# Altium integrated library PMIC.IntLib: 63 symbols
Pins are listed as number, name and electrical type; pins without a type are passive.

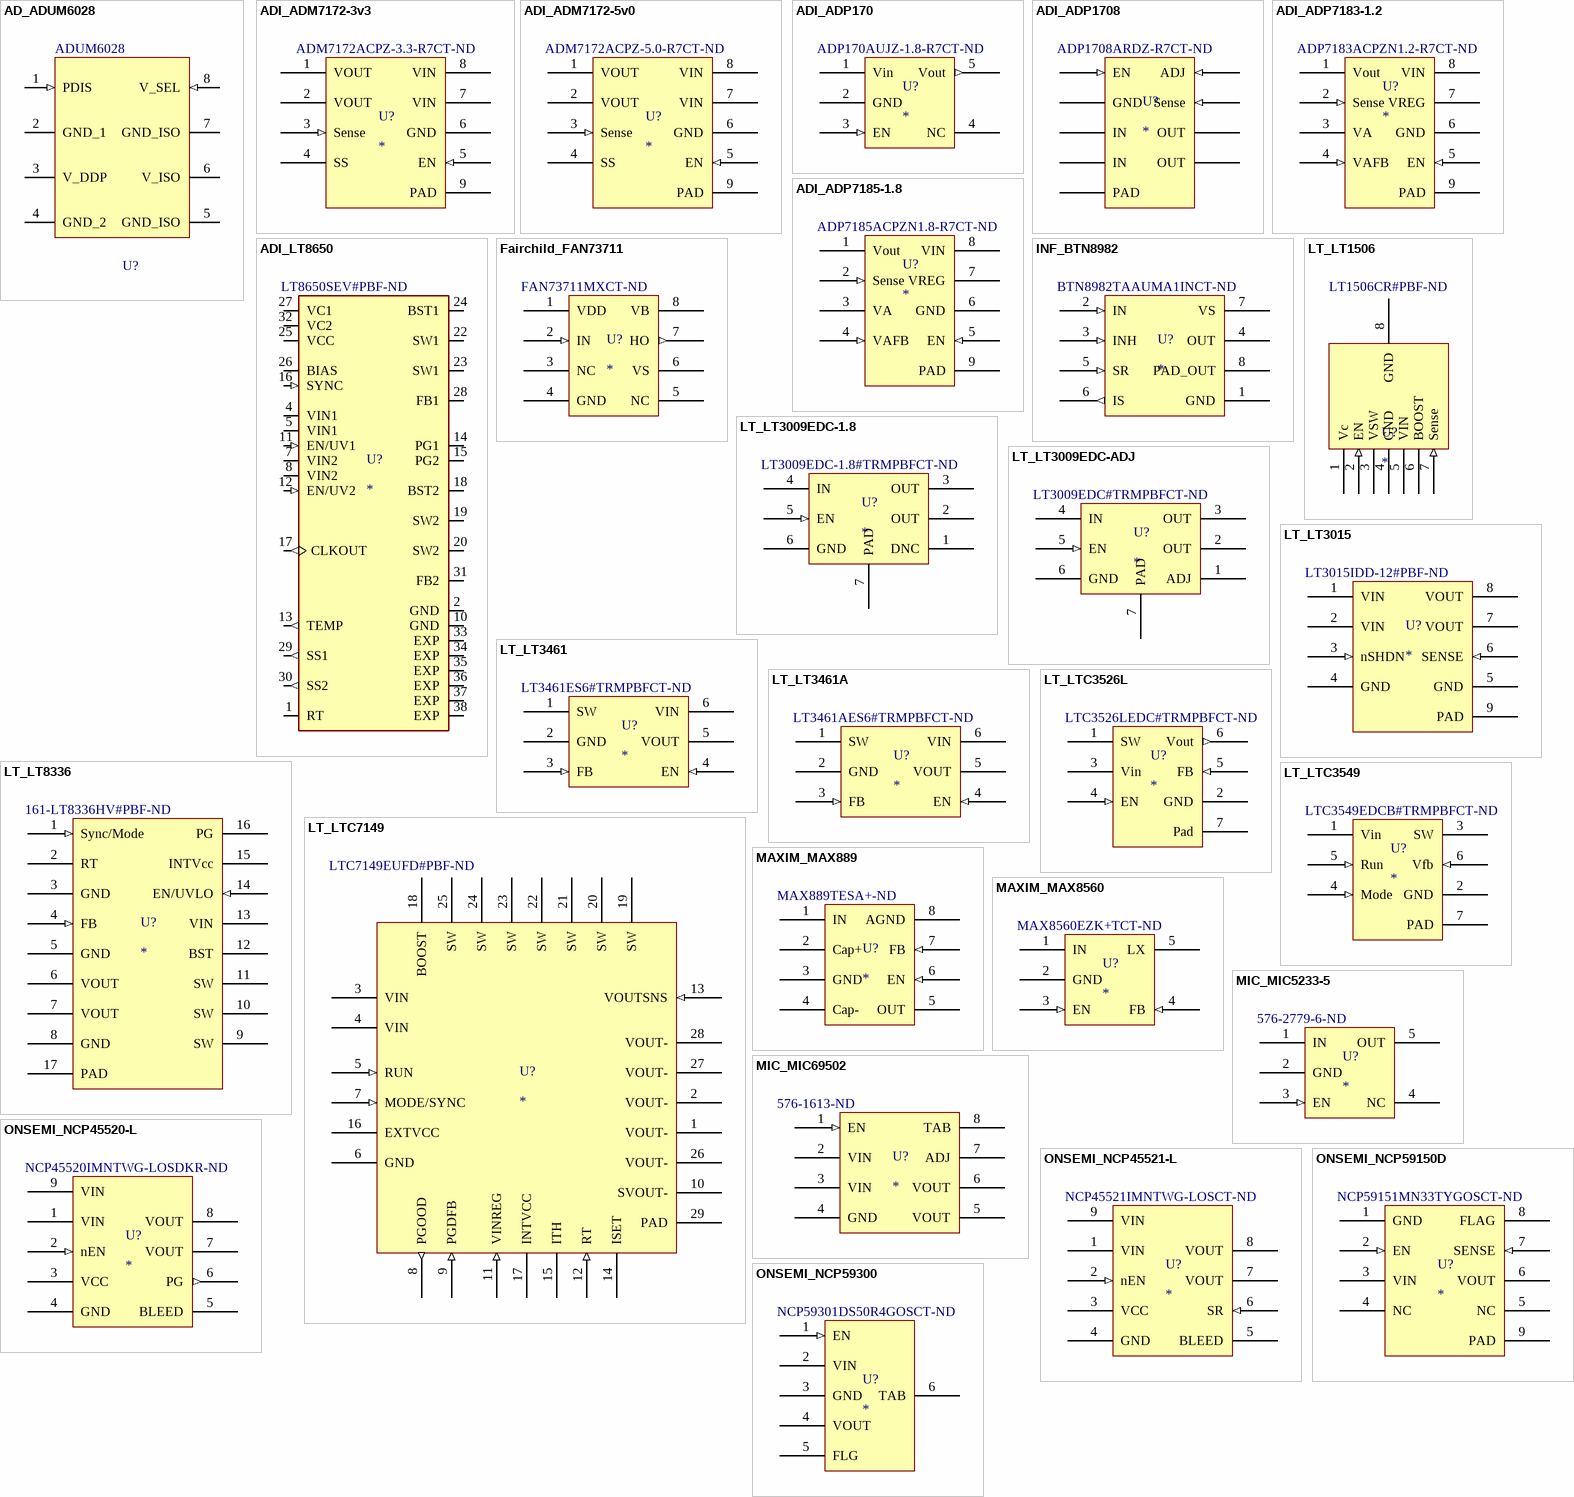
[diagram p0: symbols AD_ADUM6028 to ONSEMI_NCP59300]

## AD_ADUM6028
designator U?  Manufacturer Part Number: ADUM6028  (hidden comment: *)
ISO 3.3/5v 60mA; Manufacturer: Analog Devices; Number of Outputs: 1; Min Input Voltage: 4.5V; Max Input Voltage: 5.5V; Voltage - Output 1: 5V; Isolation Voltage: 5kV; Efficiency: 33%; Supplier 1: Digi-Key; Supplier Part Number 1: ADUM6028-5BRIZ-ND; RoHS: No; Category: Board Mount Modules; Stock 1: 124; Pricing 1: 1=9.23000, 10=8.34200, 25=7.95400, 100=6.59600, 250=6.01400, 500=5.62600 (USD); Mount: Surface Mount; Case/Package: SOIC; Number of Pins: 8; Min Operating Temperature: -40°C; Max Operating Temperature: 125°C; Features: UVLO,OTP; Max Output Current: 60mA; ComponentLink1URL: https://www.analog.com/media/en/technical-documentation/data-sheets/ADuM6020-6028.pdf?src-supplier=Digi-Key; ComponentLink1Description: https://www.analog.com/media/en/technical-documentation/data-sheets/ADuM6020-6028.pdf?src-supplier=Digi-Key
footprint ADI_ADUM6028_SOIC8 (SOIC, 8-Leads, Body 5.85x7.50mm, Pitch 1.27mm, IPC High Density)
pins: 1 PDIS (in), 2 GND_1, 3 V_DDP (power), 4 GND_2, 5 GND_ISO, 6 V_ISO (power), 7 GND_ISO, 8 V_SEL (in)

## ADI_ADM7172-3v3
designator U?  Supplier Part Number 1: ADM7172ACPZ-3.3-R7CT-ND
3.3V 2A LDO; Supplier 1: Digi-Key
footprint ADI_ADM7172_SON8 (SON, 8-Leads, Body 3.00x3.00mm, Pitch 0.50mm, Thermal Pad 2.44x1.49mm, IPC High Density)
pins: 1 VOUT (power), 2 VOUT (power), 3 Sense (in), 4 SS, 5 EN (in), 6 GND (power), 7 VIN (power), 8 VIN (power), 9 PAD (power)

## ADI_ADM7172-5v0
designator U?  Supplier Part Number 1: ADM7172ACPZ-5.0-R7CT-ND
5.0V 2A LDO; Supplier 1: Digi-Key
footprint ADI_ADM7172_SON8 (SON, 8-Leads, Body 3.00x3.00mm, Pitch 0.50mm, Thermal Pad 2.44x1.49mm, IPC High Density)
pins: 1 VOUT (power), 2 VOUT (power), 3 Sense (in), 4 SS, 5 EN (in), 6 GND (power), 7 VIN (power), 8 VIN (power), 9 PAD (power)

## ADI_ADP170
designator U?  Supplier Part Number 1: ADP170AUJZ-1.8-R7CT-ND
1.8V 300mA LDO; Supplier 1: Digi-Key
footprint ADI_ADP170_SOT23-5 (SOT23, 5-Leads, Body 2.90x2.70mm, Pitch 0.95mm, IPC High Density)
pins: 1 Vin (power), 2 GND (power), 3 EN (in), 4 NC, 5 Vout (out)

## ADI_ADP1708
designator U?  Supplier Part Number 1: ADP1708ARDZ-R7CT-ND
ADJ 1A LDO; Supplier 1: Digikey
footprint ADI_ADP1706_SOIC8 (SOIC, 8-Leads, Body 4.90x3.85mm, Pitch 1.27mm, Thermal Pad 3.10x2.41mm, IPC High Density)
pins: 0 PAD (power), 1 EN (in), 2 GND (power), 3 IN (power), 4 IN (power), 5 OUT (power), 6 OUT (power), 7 Sense (in), 8 ADJ (in)

## ADI_ADP7183-1.2
designator U?  Supplier Part Number 1: ADP7183ACPZN1.2-R7CT-ND
-1.2V Inverting 300mA LDO; Supplier 1: Digi-Key
footprint ADI_ADP7183_LFCSP-8 (SON, 8-Leads, Body 2.00x2.00mm, Pitch 0.50mm, Thermal Pad 1.50x0.89mm, IPC High Density)
pins: 1 Vout (power), 2 Sense (in), 3 VA, 4 VAFB (in), 5 EN (in), 6 GND (power), 7 VREG, 8 VIN (power), 9 PAD (power)

## ADI_ADP7185-1.8
designator U?  Supplier Part Number 1: ADP7185ACPZN1.8-R7CT-ND
-1.8V Inverting 500mA LDO; Supplier 1: Digi-Key
footprint ADI_ADP7183_LFCSP-8 (SON, 8-Leads, Body 2.00x2.00mm, Pitch 0.50mm, Thermal Pad 1.50x0.89mm, IPC High Density)
pins: 1 Vout (power), 2 Sense (in), 3 VA, 4 VAFB (in), 5 EN (in), 6 GND (power), 7 VREG, 8 VIN (power), 9 PAD (power)

## ADI_LT8650
designator U?  Supplier Part Number 1: LT8650SEV#PBF-ND
ADJ Dual 4A/4A Buck; MF: Analog Devices; MP: LT8650SEV#PBF; Package: LQFN -32 Analog Devices; Availability: Unavailable; Value: *; SnapEDA_Link: https://www.snapeda.com/parts/LT8650SEV%23PBF/Analog%20Devices/view-part/4330709/?ref=snap; Price: None; Supplier 1: Digi-Key
footprint AD_LT8650S
pins: 1 RT, 2 GND (power), 4 VIN1 (power), 5 VIN1 (power), 7 VIN2 (power), 8 VIN2 (power), 10 GND (power), 11 EN/UV1 (in), 12 EN/UV2 (in), 13 TEMP (out), 14 PG1 (oc), 15 PG2 (oc), 16 SYNC (in), 17 CLKOUT (out), 18 BST2, 19 SW2 (power), 20 SW2 (power), 22 SW1 (power), 23 SW1 (power), 24 BST1, 25 VCC (power), 26 BIAS (io), 27 VC1 (power), 28 FB1 (io), 29 SS1 (out), 30 SS2 (out), 31 FB2 (io), 32 VC2 (power), 33 EXP (power), 34 EXP (power), 35 EXP (power), 36 EXP (power), 37 EXP (power), 38 EXP (power)

## Fairchild_FAN73711
designator U?  Supplier Part Number 1: FAN73711MXCT-ND
High Side Gate Driver, 600V; Supplier 1: Digi-Key
footprint Fairchild_FAN73711_SOP8 (SOP, 8-Leads, Body 4.92x3.95mm, Pitch 1.27mm, IPC High Density)
pins: 1 VDD (power), 2 IN (in), 3 NC, 4 GND (power), 5 NC, 6 VS (power), 7 HO (out), 8 VB (power)

## INF_BTN8982
designator U?  Supplier Part Number 1: BTN8982TAAUMA1INCT-ND
50A Half Bridge; Supplier 1: Digi-Key
footprint INF_8982_TO263-7 (D2-PAK, 8-Pads, Body 7.82x8.46mm (max), IPC Low Density)
pins: 1 GND (power), 2 IN (in), 3 INH (in), 4 OUT (power), 5 SR (in), 6 IS (out), 7 VS (power), 8 PAD_OUT (power)

## LT_LT1506
designator U?  Supplier Part Number 1: LT1506CR#PBF-ND
ADJ 4.5A 500kHz Buck; Supplier 1: Digi-Key
footprint LT_LT1506F_DPAK
pins: 1 Vc (power), 2 EN (in), 3 VSW (power), 4 GND (power), 5 VIN (power), 6 BOOST (power), 7 Sense (in), 8 GND (power)

## LT_LT3009EDC-1.8
designator U?  Supplier Part Number 1: LT3009EDC-1.8#TRMPBFCT-ND
1.8V 20mA LDO; Supplier 1: Digi-Key
footprint LT_LT3009_DFN6 (QFN, 6-Leads, Body 2.00x2.00mm, Pitch 0.50mm, Thermal Pad 0.61x1.42mm, IPC Medium Density)
pins: 1 DNC, 2 OUT (power), 3 OUT (power), 4 IN (power), 5 EN (in), 6 GND (power), 7 PAD (power)

## LT_LT3009EDC-ADJ
designator U?  Supplier Part Number 1: LT3009EDC#TRMPBFCT-ND
ADJ 20mA LDO; Supplier 1: Digi-Key
footprint LT_LT3009_DFN6 (QFN, 6-Leads, Body 2.00x2.00mm, Pitch 0.50mm, Thermal Pad 0.61x1.42mm, IPC Medium Density)
pins: 1 ADJ, 2 OUT (power), 3 OUT (power), 4 IN (power), 5 EN (in), 6 GND (power), 7 PAD (power)

## LT_LT3015
designator U?  Supplier Part Number 1: LT3015IDD-12#PBF-ND
-12v 1.5A LDO; Supplier 1: Digi-Key
footprint LT_LT3015_SON-8 (SON, 8-Leads, Body 3.00x3.00mm, Pitch 0.50mm, Thermal Pad 2.40x1.49mm, IPC High Density)
pins: 1 VIN (power), 2 VIN (power), 3 nSHDN (in), 4 GND (power), 5 GND (power), 6 SENSE (in), 7 VOUT (power), 8 VOUT (power), 9 PAD (power)

## LT_LT3461
designator U?  Supplier Part Number 1: LT3461ES6#TRMPBFCT-ND
ADJ 250mA(Switch) 1.3MHz Boost; Supplier 1: Digi-Key
footprint LT_LT3461_SOT23-6 (SOT23, 6-Leads, Body 2.90x2.80mm, Pitch 0.95mm, IPC High Density)
pins: 1 SW (power), 2 GND (power), 3 FB (in), 4 EN (in), 5 VOUT (power), 6 VIN (power)

## LT_LT3461A
designator U?  Supplier Part Number 1: LT3461AES6#TRMPBFCT-ND
ADJ 250mA(Switch) 3MHz Boost; Supplier 1: Digi-Key
footprint LT_LT3461_SOT23-6 (SOT23, 6-Leads, Body 2.90x2.80mm, Pitch 0.95mm, IPC High Density)
pins: 1 SW (power), 2 GND (power), 3 FB (in), 4 EN (in), 5 VOUT (power), 6 VIN (power)

## LT_LT8336
designator U?  Supplier Part Number 1: 161-LT8336HV#PBF-ND
ADJ 2.5A 3MHz Boost; Supplier 1: Digi-Key
footprint LT_LT8336_QFN16 (QFN, 16-Leads, Body 3.00x3.00mm, Pitch 0.50mm, Thermal Pad 1.44x1.44mm, IPC High Density)
pins: 1 Sync/Mode (in), 2 RT, 3 GND (power), 4 FB (in), 5 GND (power), 6 VOUT (power), 7 VOUT (power), 8 GND (power), 9 SW (power), 10 SW (power), 11 SW (power), 12 BST, 13 VIN (power), 14 EN/UVLO (in), 15 INTVcc, 16 PG, 17 PAD (power)

## LT_LTC3526L
designator U?  Supplier Part Number 1: LTC3526LEDC#TRMPBFCT-ND
ADJ 550mA 1MHz Boost; Supplier 1: Digi-Key
footprint LT_LTC3526L_DFN6 (SON, 6-Leads, Body 2.00x2.00mm, Pitch 0.50mm, Thermal Pad 1.60x0.89mm, IPC High Density)
pins: 1 SW (power), 2 GND (power), 3 Vin (power), 4 EN (in), 5 FB (in), 6 Vout (out), 7 Pad (power)

## LT_LTC3549
designator U?  Supplier Part Number 1: LTC3549EDCB#TRMPBFCT-ND
ADJ 250mA 2.25MHz Buck; Supplier 1: Digi-Key
footprint LT_LTC3549_DFN (QFN, 6-Leads, Body 3.00x2.00mm, Pitch 0.50mm, Thermal Pad 1.65x1.35mm, IPC High Density)
pins: 1 Vin (power), 2 GND (power), 3 SW (power), 4 Mode (in), 5 Run (in), 6 Vfb (in), 7 PAD (power)

## LT_LTC7149
designator U?  Supplier Part Number 1: LTC7149EUFD#PBF-ND
ADJ 4A ADJ INVBuck; Supplier 1: Digi-Key
footprint LT_LTC7149_QFN-28 (QFN, 28-Leads, Body 4.00x5.00mm, Pitch 0.50mm, Thermal Pad 2.65x3.65mm, IPC High Density)
pins: 1 VOUT- (power), 2 VOUT- (power), 3 VIN (power), 4 VIN (power), 5 RUN (in), 6 GND (power), 7 MODE/SYNC (in), 8 PGOOD (out), 9 PGDFB (in), 10 SVOUT-, 11 VINREG (in), 12 RT (in), 13 VOUTSNS (in), 14 ISET, 15 ITH, 16 EXTVCC (power), 17 INTVCC (power), 18 BOOST, 19 SW (power), 20 SW (power), 21 SW (power), 22 SW (power), 23 SW (power), 24 SW (power), 25 SW (power), 26 VOUT- (power), 27 VOUT- (power), 28 VOUT- (power), 29 PAD (power)

## MAXIM_MAX889
designator U?  Supplier Part Number 1: MAX889TESA+-ND
Inverting Charge pump 200mA; Supplier 1: Digikey
footprint MAXIM_MAX889_SOIC-8 (SOP, 8-Leads, Body 4.90x3.90mm, Pitch 1.27mm, IPC High Density)
pins: 1 IN (power), 2 Cap+ (power), 3 GND (power), 4 Cap- (power), 5 OUT (power), 6 EN (in), 7 FB (in), 8 AGND (power)

## MAXIM_MAX8560
designator U?  Supplier Part Number 1: MAX8560EZK+TCT-ND
ADJ 500mA 4MHz Buck; Supplier 1: Digi-Key
footprint MAXIM_MAX8560_SOT23-5 (SOT23, 5-Leads, Body 2.90x2.70mm, Pitch 0.95mm, IPC High Density)
pins: 1 IN (power), 2 GND (power), 3 EN (in), 4 FB (in), 5 LX (power)

## MIC_MIC5233-5
designator U?  Supplier Part Number 1: 576-2779-6-ND
5V 100mA Wide Voltage LDO; Supplier 1: Digi-Key
footprint TI_TLV702_SOT23-5 (SOT23, 5-Leads, Body 2.90x2.70mm, Pitch 0.95mm, IPC High Density)
pins: 1 IN (power), 2 GND (power), 3 EN (in), 4 NC, 5 OUT (power)

## MIC_MIC69502
designator U?  Supplier Part Number 1: 576-1613-ND
ADJ 5A LDO; Supplier 1: Digi-Key
footprint MIC_mic69502 (D-PAK, 8-Pads, Body 7.17x8.12mm (max), IPC High Density)
pins: 1 EN (in), 2 VIN (power), 3 VIN (power), 4 GND (power), 5 VOUT (power), 6 VOUT (power), 7 ADJ, 8 TAB (power)

## ONSEMI_NCP45520-L
designator U?  Supplier Part Number 1: NCP45520IMNTWG-LOSDKR-ND
13.5V, 10.5A Load Switch; Supplier 1: Digi-Key
footprint ONSEMI_NCP45520 (SON, 8-Leads, Body 2.00x2.00mm, Pitch 0.50mm, Thermal Pad 1.60x0.82mm, IPC High Density)
pins: 1 VIN (power), 2 nEN (in), 3 VCC (power), 4 GND (power), 5 BLEED (power), 6 PG (out), 7 VOUT (power), 8 VOUT (power), 9 VIN (power)

## ONSEMI_NCP45521-L
designator U?  Supplier Part Number 1: NCP45521IMNTWG-LOSCT-ND
13.5V, 10.5A Load Switch; Supplier 1: Digi-Key
footprint ONSEMI_NCP45520 (SON, 8-Leads, Body 2.00x2.00mm, Pitch 0.50mm, Thermal Pad 1.60x0.82mm, IPC High Density)
pins: 1 VIN (power), 2 nEN (in), 3 VCC (power), 4 GND (power), 5 BLEED (power), 6 SR (in), 7 VOUT (power), 8 VOUT (power), 9 VIN (power)

## ONSEMI_NCP59150D
designator U?  Supplier Part Number 1: NCP59151MN33TYGOSCT-ND
3.3V 1.5A LDO; Supplier 1: Digi-Key
footprint ONSEMI_NCP59150D (SON, 8-Leads, Body 4.00x4.00mm, Pitch 0.80mm, Thermal Pad 2.06x2.24mm, IPC High Density)
pins: 1 GND (power), 2 EN (in), 3 VIN (power), 4 NC, 5 NC, 6 VOUT (power), 7 SENSE (in), 8 FLAG (oc), 9 PAD (power)

## ONSEMI_NCP59300
designator U?  Supplier Part Number 1: NCP59301DS50R4GOSCT-ND
5V 3A LDO; Supplier 1: Digi-Key
footprint ONSEMI_NPC59300
pins: 1 EN (in), 2 VIN (power), 3 GND (power), 4 VOUT (power), 5 FLG (oc), 6 TAB (power)

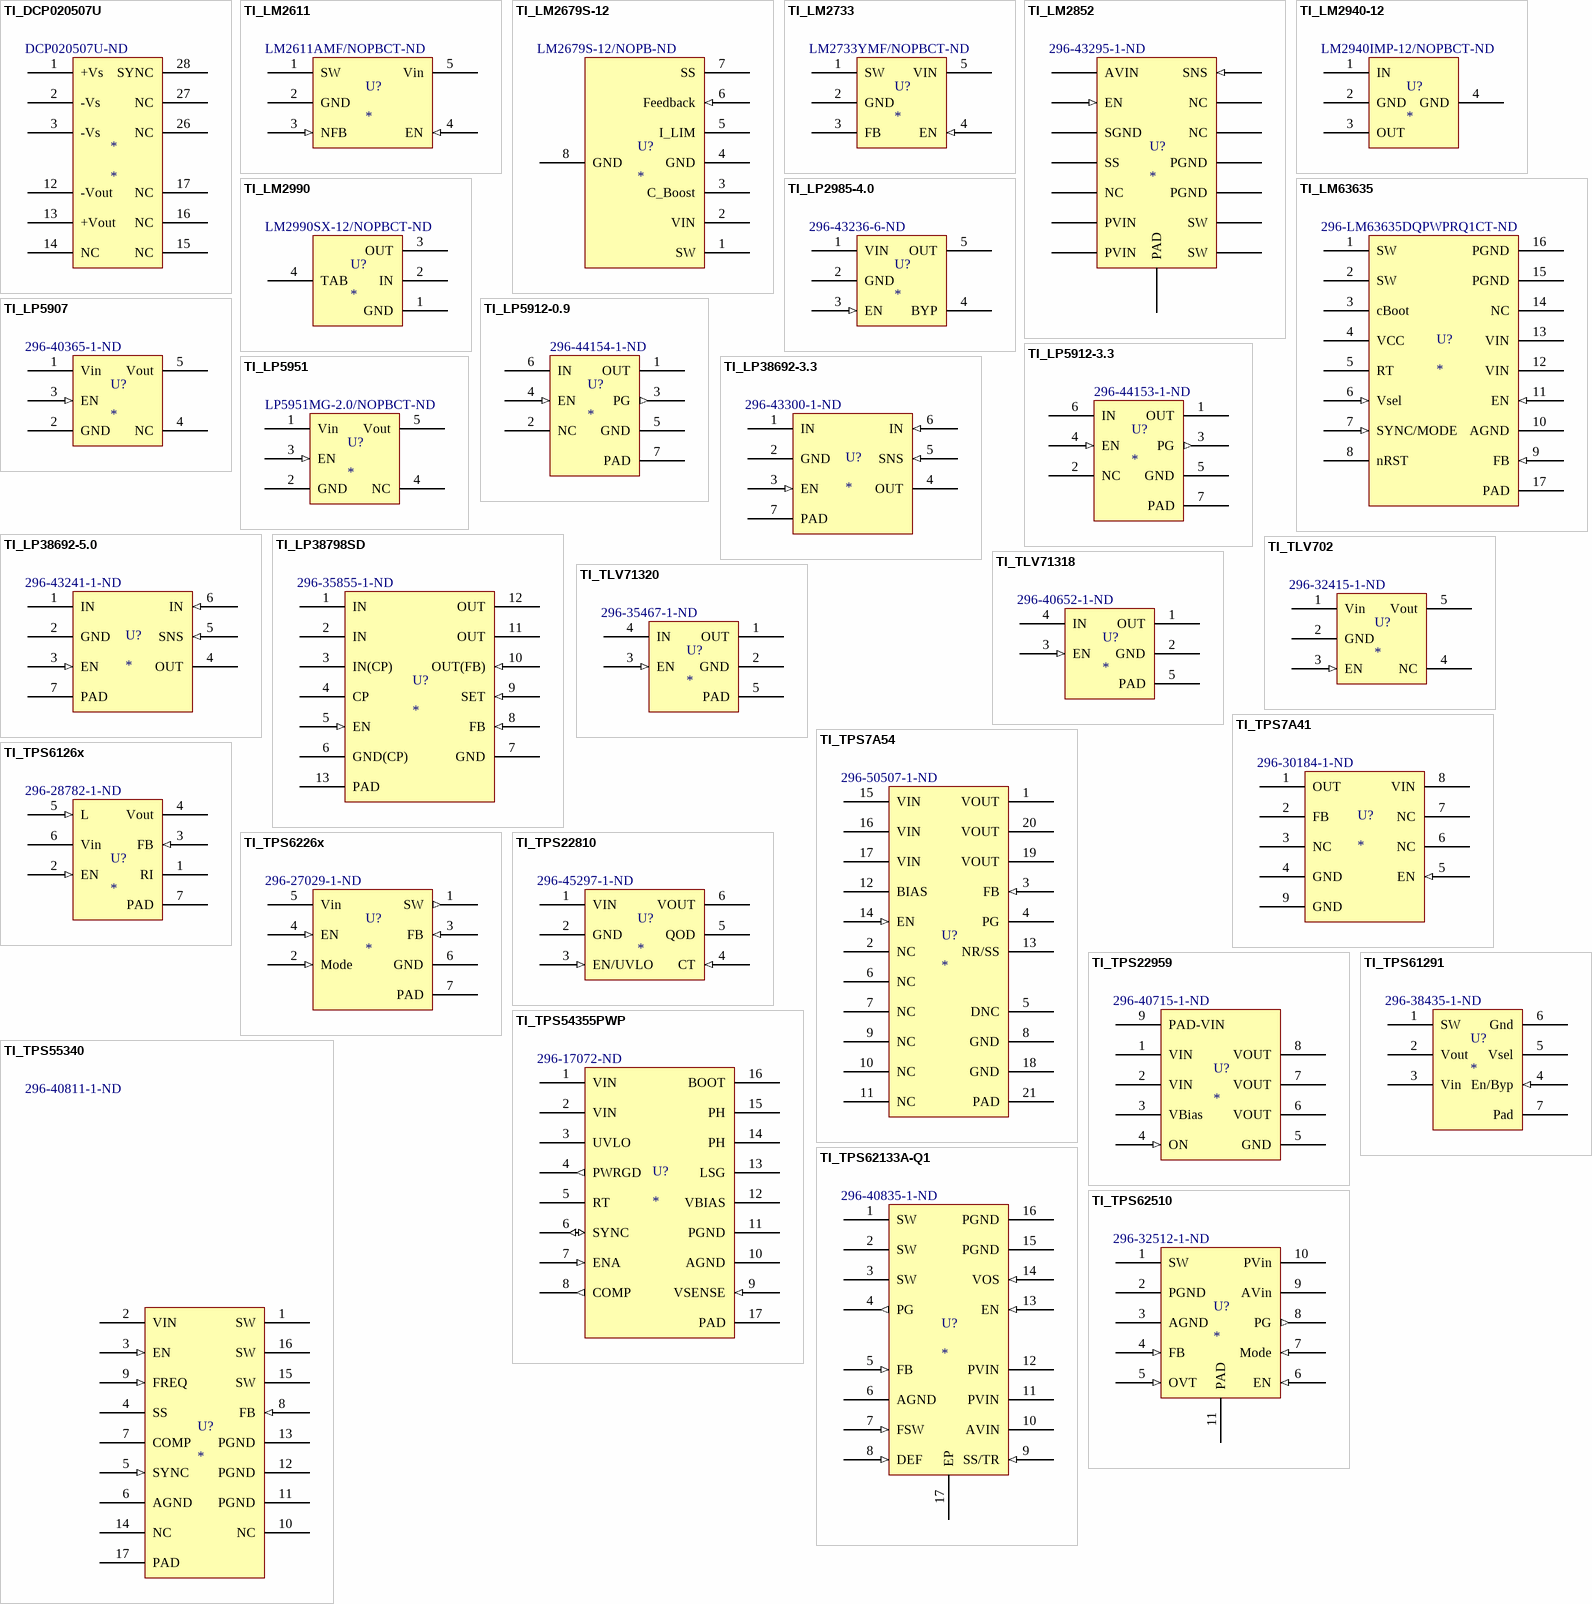
[diagram p1: symbols TI_DCP020507U to TI_TPS62510]

## TI_DCP020507U
designator *  Supplier Part Number 1: DCP020507U-ND
7V 286mA 800KHz isolated DCDC; Supplier 1: Digi-Key
footprint TI_DCP020507U_SOP12 (SOP, 28-Leads, Body 17.90x7.50mm, Pitch 1.27mm, IPC High Density)
pins: 1 +Vs (power), 2 -Vs (power), 3 -Vs (power), 12 -Vout (power), 13 +Vout (power), 14 NC, 15 NC, 16 NC, 17 NC, 26 NC, 27 NC, 28 SYNC

## TI_LM2611
designator U?  Supplier Part Number 1: LM2611AMF/NOPBCT-ND
ADJ 900mA 1.4MHz Cuk(INV); Supplier 1: Digi-Key
footprint TI_LM2611_SOT23-5 (SOT23, 5-Leads, Body 2.90x2.80mm, Pitch 0.95mm, IPC High Density)
pins: 1 SW (power), 2 GND (power), 3 NFB (in), 4 EN (in), 5 Vin (power)

## TI_LM2679S-12
designator U?  Supplier Part Number 1: LM2679S-12/NOPB-ND
12v 5A 260kHz Buck; Supplier 1: Digi-Key
footprint TI_LM2679 (D2-PAK, 8-Pads, Body 7.55x8.61mm (max), IPC High Density)
pins: 1 SW (power), 2 VIN (power), 3 C_Boost, 4 GND (power), 5 I_LIM, 6 Feedback (in), 7 SS, 8 GND (power)

## TI_LM2733
designator U?  Supplier Part Number 1: LM2733YMF/NOPBCT-ND
ADJ 1A 1.6MHz Boost; Supplier 1: Digi-Key
footprint TI_TLV702_SOT23-5 (SOT23, 5-Leads, Body 2.90x2.70mm, Pitch 0.95mm, IPC High Density)
pins: 1 SW (power), 2 GND (power), 3 FB, 4 EN (in), 5 VIN (power)

## TI_LM2852
designator U?  Supplier Part Number 1: 296-43295-1-ND
3.3V 2A 1.5MHz Buck; Supplier 1: Digi-Key
footprint TI_LM2852_TSOP-14 (TSOP, 14-Leads, Body 5.00x4.40mm, Pitch 0.65mm, Thermal Pad 3.10x3.00mm, IPC High Density)
pins: 1 AVIN (power), 2 EN (in), 3 SGND (power), 4 SS, 5 NC, 6 PVIN (power), 7 PVIN (power), 8 SW (power), 9 SW (power), 10 PGND (power), 11 PGND (power), 12 NC, 13 NC, 14 SNS (in), 15 PAD (power)

## TI_LM2940-12
designator U?  Supplier Part Number 1: LM2940IMP-12/NOPBCT-ND
12V 1A LDO; Supplier 1: Digi-Key
footprint TI_LM2940-SOT223-4 (SOT223, 4-Leads, Body 6.50x7.00mm (avg), Pitch 2.30mm, IPC High Density)
pins: 1 IN (power), 2 GND (power), 3 OUT (power), 4 GND (power)

## TI_LM2990
designator U?  Supplier Part Number 1: LM2990SX-12/NOPBCT-ND
-12V 1A LDO; Supplier 1: Digi-Key
footprint TI_LM2990_DPAK-3 (D2-PAK, 4-Pads, Body 7.55x8.56mm (max), IPC High Density)
pins: 1 GND (power), 2 IN (power), 3 OUT (power), 4 TAB (power)

## TI_LM63635
designator U?  Supplier Part Number 1: 296-LM63635DQPWPRQ1CT-ND
ADJ 3.25A 2.2MHz Buck; Supplier 1: Digi-Key
footprint TI_LM63635_TSOP16 (TSOP, 16-Leads, Body 5.00x4.40mm, Pitch 0.65mm, Thermal Pad 2.30x2.46mm, IPC High Density)
pins: 1 SW (power), 2 SW (power), 3 cBoot, 4 VCC (power), 5 RT (power), 6 Vsel (in), 7 SYNC/MODE (in), 8 nRST (oc), 9 FB (in), 10 AGND (power), 11 EN (in), 12 VIN (power), 13 VIN (power), 14 NC, 15 PGND (power), 16 PGND (power), 17 PAD (power)

## TI_LP2985-4.0
designator U?  Supplier Part Number 1: 296-43236-6-ND
4.0V 150mA LDO; Supplier 1: Digi-Key
footprint TI_TLV702_SOT23-5 (SOT23, 5-Leads, Body 2.90x2.70mm, Pitch 0.95mm, IPC High Density)
pins: 1 VIN (power), 2 GND (power), 3 EN (in), 4 BYP, 5 OUT (power)

## TI_LP5907
designator U?  Supplier Part Number 1: 296-40365-1-ND
3.3V 250mA LDO; Supplier 1: Digikey
footprint TI_TLV702_SOT23-5 (SOT23, 5-Leads, Body 2.90x2.70mm, Pitch 0.95mm, IPC High Density)
pins: 1 Vin (power), 2 GND (power), 3 EN (in), 4 NC, 5 Vout (power)

## TI_LP5912-0.9
designator U?  Supplier Part Number 1: 296-44154-1-ND
0.9V 500mA LDO; Supplier 1: Digi-Key
footprint TI_LP5912_PSON6 (SON, 6-Leads, Body 2.00x2.00mm, Pitch 0.65mm, Thermal Pad 1.60x0.89mm, IPC High Density)
pins: 1 OUT (power), 2 NC, 3 PG (out), 4 EN (in), 5 GND (power), 6 IN (power), 7 PAD (power)

## TI_LP5912-3.3
designator U?  Supplier Part Number 1: 296-44153-1-ND
3.3V 500mA LDO; Supplier 1: Digi-Key
footprint TI_LP5912_PSON6 (SON, 6-Leads, Body 2.00x2.00mm, Pitch 0.65mm, Thermal Pad 1.60x0.89mm, IPC High Density)
pins: 1 OUT (power), 2 NC, 3 PG (out), 4 EN (in), 5 GND (power), 6 IN (power), 7 PAD (power)

## TI_LP5951
designator U?  Supplier Part Number 1: LP5951MG-2.0/NOPBCT-ND
2.0V 150mA LDO; Supplier 1: Digi-Key
footprint TI_LP5951_SC70-5 (SOT23, 5-Leads, Body 2.00x2.10mm, Pitch 0.65mm, IPC High Density)
pins: 1 Vin (power), 2 GND (power), 3 EN (in), 4 NC, 5 Vout (power)

## TI_LP38692-3.3
designator U?  Supplier Part Number 1: 296-43300-1-ND
3.3V 1A LDO; Supplier 1: Digi-Key
footprint TI_LP38690_WSON-6 (SON, 6-Leads, Body 3.00x3.00mm, Pitch 0.95mm, Thermal Pad 2.10x1.60mm, IPC High Density)
pins: 1 IN (power), 2 GND (power), 3 EN (in), 4 OUT (power), 5 SNS (in), 6 IN (in), 7 PAD

## TI_LP38692-5.0
designator U?  Supplier Part Number 1: 296-43241-1-ND
5.0V 1A LDO; Supplier 1: Digi-Key
footprint TI_LP38690_WSON-6 (SON, 6-Leads, Body 3.00x3.00mm, Pitch 0.95mm, Thermal Pad 2.10x1.60mm, IPC High Density)
pins: 1 IN (power), 2 GND (power), 3 EN (in), 4 OUT (power), 5 SNS (in), 6 IN (in), 7 PAD

## TI_LP38798SD
designator U?  Supplier Part Number 1: 296-35855-1-ND
ADJ 800mA LN LDO; Supplier 1: Digi-Key
footprint TI_LP38798_SON12 (SON, 12-Leads, Body 4.00x4.00mm, Pitch 0.50mm, Thermal Pad 3.00x2.49mm, IPC High Density)
pins: 1 IN (power), 2 IN (power), 3 IN(CP) (power), 4 CP (power), 5 EN (in), 6 GND(CP) (power), 7 GND (power), 8 FB (in), 9 SET (in), 10 OUT(FB) (in), 11 OUT (power), 12 OUT (power), 13 PAD (power)

## TI_TLV702
designator U?  Supplier Part Number 1: 296-32415-1-ND
3.3V 300mA LDO; Supplier 1: Digikey
footprint TI_TLV702_SOT23-5 (SOT23, 5-Leads, Body 2.90x2.70mm, Pitch 0.95mm, IPC High Density)
pins: 1 Vin (power), 2 GND (power), 3 EN (in), 4 NC, 5 Vout (power)

## TI_TLV71318
designator U?  Supplier Part Number 1: 296-40652-1-ND
1.8V 150mA LDO CAPLESS; Supplier 1: Digi-Key
footprint TI_TLV713_DQN4 (SON, 4-Leads, Body 1.00x1.00mm, Pitch 0.65mm, Thermal Pad 0.50x0.00mm, IPC High Density)
pins: 1 OUT (power), 2 GND (power), 3 EN (in), 4 IN (power), 5 PAD (power)

## TI_TLV71320
designator U?  Supplier Part Number 1: 296-35467-1-ND
2.0V 150mA LDO CAPLESS; Supplier 1: Digi-Key
footprint TI_TLV713_DQN4 (SON, 4-Leads, Body 1.00x1.00mm, Pitch 0.65mm, Thermal Pad 0.50x0.00mm, IPC High Density)
pins: 1 OUT (power), 2 GND (power), 3 EN (in), 4 IN (power), 5 PAD (power)

## TI_TPS7A41
designator U?  Supplier Part Number 1: 296-30184-1-ND
ADJ 50mA 50Vin LDO; Supplier 1: Digi-Key
footprint TI_7A41 (TSOP, 8-Leads, Body 3.00x3.00mm, Pitch 0.65mm, Thermal Pad 1.98x1.88mm, IPC High Density)
pins: 1 OUT (power), 2 FB, 3 NC, 4 GND (power), 5 EN (in), 6 NC, 7 NC, 8 VIN (power), 9 GND (power)

## TI_TPS7A54
designator U?  Supplier Part Number 1: 296-50507-1-ND
ADJ 4A LN LDO; Supplier 1: Digi-Key
footprint TI_TPS7A54_QFN20 (QFN, 20-Leads, Body 3.50x3.50mm, Pitch 0.50mm, Thermal Pad 2.05x2.05mm, IPC High Density)
pins: 1 VOUT (power), 2 NC, 3 FB (in), 4 PG (oc), 5 DNC, 6 NC, 7 NC, 8 GND (power), 9 NC, 10 NC, 11 NC, 12 BIAS (power), 13 NR/SS, 14 EN (in), 15 VIN (power), 16 VIN (power), 17 VIN (power), 18 GND (power), 19 VOUT (power), 20 VOUT (power), 21 PAD (power)

## TI_TPS6126x
designator U?  Supplier Part Number 1: 296-28782-1-ND
ADJ 100mA 2.5MHz Boost; Supplier 1: Digi-Key
footprint TI_TPS6126x_PSON6 (SON, 6-Leads, Body 2.00x2.00mm, Pitch 0.65mm, Thermal Pad 1.60x0.89mm, IPC High Density)
pins: 1 RI "2-20kR", 2 EN (in) "2-20kR", 3 FB (in) "2-20kR", 4 Vout (power) "2-20kR", 5 L (in) "2-20kR", 6 Vin (power) "2-20kR", 7 PAD (power) "2-20kR"

## TI_TPS6226x
designator U?  Supplier Part Number 1: 296-27029-1-ND
ADJ 600mA 2.25MHz Buck; Supplier 1: Digi-Key
footprint TI_TPS6226x_PSON6 (SON, 6-Leads, Body 2.00x2.00mm, Pitch 0.65mm, Thermal Pad 1.60x0.89mm, IPC Medium Density)
pins: 1 SW (out), 2 Mode (in), 3 FB (in), 4 EN (in), 5 Vin (power), 6 GND (power), 7 PAD (power)

## TI_TPS22810
designator U?  Supplier Part Number 1: 296-45297-1-ND
18V 2A Load Switch; Supplier 1: Digi-Key
footprint TI_TPS22810_SOT-6 (SOT23, 6-Leads, Body 2.90x2.80mm, Pitch 0.95mm, IPC High Density)
pins: 1 VIN (power), 2 GND (power), 3 EN/UVLO (in), 4 CT (in), 5 QOD, 6 VOUT (power)

## TI_TPS22959
designator U?  Supplier Part Number 1: 296-40715-1-ND
5V, 15A Load Switch; Supplier 1: Digi-Key
footprint TI_TPS22959_SON8 (PSON, 8-Leads, Body 3.00x3.00mm, Pitch 0.65mm, Thermal Pad 2.40x1.60mm, IPC High Density)
pins: 1 VIN (power), 2 VIN (power), 3 VBias (power), 4 ON (in), 5 GND (power), 6 VOUT (power), 7 VOUT (power), 8 VOUT (power), 9 PAD-VIN (power)

## TI_TPS54355PWP
designator U?  Supplier Part Number 1: 296-17072-ND
2.5V 3A Buck; Supplier 1: Digi-Key
footprint TI_TPS54355PWP_TSOP-16 (TSOP, 16-Leads, Body 5.00x4.40mm, Pitch 0.65mm, Thermal Pad 2.31x2.46mm, IPC High Density)
pins: 1 VIN (power), 2 VIN (power), 3 UVLO, 4 PWRGD (out), 5 RT, 6 SYNC (io), 7 ENA (in), 8 COMP (out), 9 VSENSE (in), 10 AGND (power), 11 PGND (power), 12 VBIAS, 13 LSG, 14 PH, 15 PH, 16 BOOT, 17 PAD (power)

## TI_TPS55340
designator U?  Supplier Part Number 1: 296-40811-1-ND
ADJ 5A ADJ BOOST; Supplier 1: Digi-Key
footprint TI_TPS55340_QFN-16 (QFN, 16-Leads, Body 3.00x3.00mm, Pitch 0.50mm, Thermal Pad 1.70x1.70mm, IPC High Density)
pins: 1 SW (power), 2 VIN (power), 3 EN (in), 4 SS, 5 SYNC (in), 6 AGND (power), 7 COMP, 8 FB (in), 9 FREQ (in), 10 NC, 11 PGND (power), 12 PGND (power), 13 PGND (power), 14 NC, 15 SW (power), 16 SW (power), 17 PAD (power)

## TI_TPS61291
designator U?  Supplier Part Number 1: 296-38435-1-ND
PROG 700mA Boost w/ Bypass; Supplier 1: Digi-Key
footprint TI_TPS61291_PSON6 (SON, 6-Leads, Body 2.00x2.00mm, Pitch 0.65mm, Thermal Pad 1.60x0.89mm, IPC High Density)
pins: 1 SW (power), 2 Vout (power), 3 Vin (power), 4 En/Byp (in), 5 Vsel, 6 Gnd (power), 7 Pad (power)

## TI_TPS62133A-Q1
designator U?  Supplier Part Number 1: 296-40835-1-ND
5V 3A 2.5MHz Buck; Supplier 1: Digi-Key
footprint TI_TPS6213xA_QFN16 (QFN, 16-Leads, Body 3.00x3.00mm, Pitch 0.50mm, Thermal Pad 1.68x1.68mm, IPC High Density)
pins: 1 SW (power), 2 SW (power), 3 SW (power), 4 PG (out), 5 FB (in), 6 AGND (power), 7 FSW (in), 8 DEF (in), 9 SS/TR (in), 10 AVIN (power), 11 PVIN (power), 12 PVIN (power), 13 EN (in), 14 VOS (in), 15 PGND (power), 16 PGND (power), 17 EP (power)

## TI_TPS62510
designator U?  Supplier Part Number 1: 296-32512-1-ND
ADJ 1.5A 1.5MHz Buck; Supplier 1: Digi-Key
footprint TI_TPS62510_SON-10 (SON, 10-Leads, Body 3.00x3.00mm, Pitch 0.50mm, Thermal Pad 2.40x1.49mm, IPC High Density)
pins: 1 SW (power), 2 PGND (power), 3 AGND (power), 4 FB (in), 5 OVT (in), 6 EN (in), 7 Mode (in), 8 PG (out), 9 AVin (power), 10 PVin (power), 11 PAD (power)

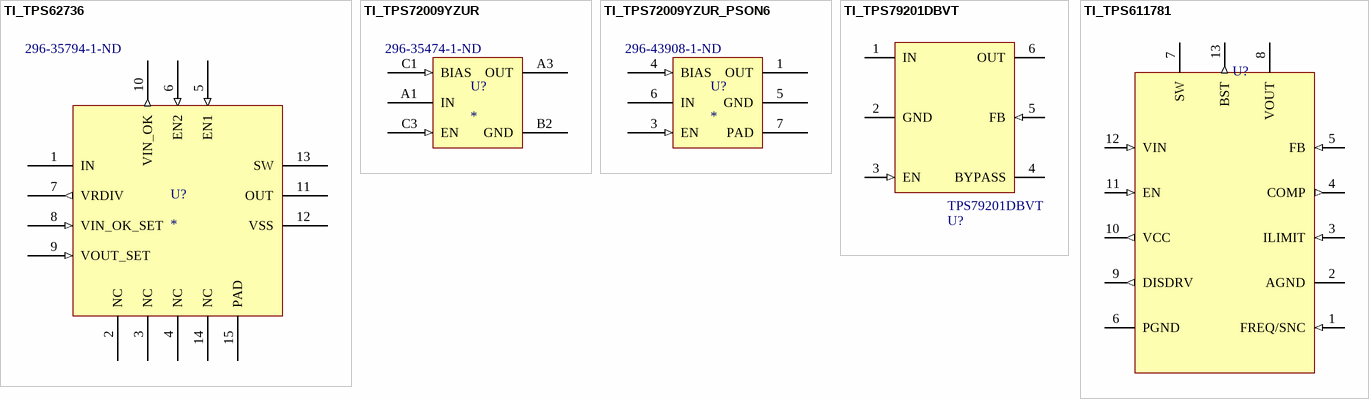
[diagram p2: symbols TI_TPS62736 to TI_TPS611781]

## TI_TPS62736
designator U?  Supplier Part Number 1: 296-35794-1-ND
ADJ 50mA ULP Buck; Supplier 1: Digi-Key
footprint TI_TPS62736_PQFN14 (QFN, 14-Leads, Body 3.50x3.50mm, Pitch 1.50mm/0.50mm, Thermal Pad 2.05x2.05mm, IPC Medium Density)
pins: 1 IN (power), 2 NC, 3 NC, 4 NC, 5 EN1 (in), 6 EN2 (in), 7 VRDIV (out), 8 VIN_OK_SET (in), 9 VOUT_SET (in), 10 VIN_OK (out), 11 OUT (power), 12 VSS (power), 13 SW (power), 14 NC (power), 15 PAD (power)

## TI_TPS72009YZUR
designator U?  Supplier Part Number 1: 296-35474-1-ND
0.9V 350mA LDO; Supplier 1: Digi-Key
footprint TI_TPS720_DSBGA5 (BGA, 5-Leads, Body 0.96x1.33mmx0.63mm, Pitch 0.50mm)
pins: A1 IN (power), A3 OUT (power), B2 GND (power), C1 BIAS (in), C3 EN (in)

## TI_TPS72009YZUR_PSON6
designator U?  Supplier Part Number 1: 296-43908-1-ND
0.9V 350mA LDO; Supplier 1: Digi-Key
footprint TI_TPS720_PSON6 (SON, 6-Leads, Body 2.00x2.00mm, Pitch 0.65mm, Thermal Pad 1.60x0.89mm, IPC High Density)
pins: 1 OUT (power), 3 EN (in), 4 BIAS (in), 5 GND (power), 6 IN (power), 7 PAD (power)

## TI_TPS79201DBVT
designator U?  Manufacturer Part Number: TPS79201DBVT  (hidden comment: *)
ADJ 100mA LDO; Manufacturer: Texas Instruments; Dropout Voltage: 55mV; Number of Outputs: 1; Max Power Dissipation: 561mW; Output Voltage: 5.5V; Min Input Voltage: 2.7V; Input Bias Current: 170uA; Reference Voltage: 1.2246V; Min Current Limit: 285mA; Quiescent Current: 200uA; Polarity: Positive; Accuracy: 2%; Min Output Voltage: 1.2V; Output Type: Adjustable; Supplier 1: Digi-Key; RoHS: Yes; Category: Voltage Regulators - Linear; Stock 1: 936; Pricing 1: 1=1.52000, 10=1.35700, 25=1.28800, 100=0.98900 (USD); Case/Package: SOT-23; Number of Pins: 6; Min Operating Temperature: -40°C; Max Operating Temperature: 125°C; Package Quantity: 1; Output Current: 100mA; Packaging: Tape and Reel; Max Output Current: 100mA; Max Input Voltage: 5.5V; Number of Regulators: 1; Power Dissipation: 561mW; Output Voltage Accuracy: 2%; Max Output Voltage: 5.5V; Power Rating: 561mW; Length: 2.9mm; Height: 1.15mm; Width: 1.6mm; Radiation Hardening: No; Lead Free: Lead Free; ComponentLink1URL: https://datasheet.ciiva.com/14666/0900766b80293ed6-14666488.pdf?src-supplier=RSComponents; ComponentLink1Description: https://datasheet.ciiva.com/14666/0900766b80293ed6-14666488.pdf?src-supplier=RSComponents; Supplier Part Number 1: 296-27097-1-ND
footprint TI_TPS79201DBVT (SOT23, 6-Leads, Body 2.90x2.80mm, Pitch 0.95mm, IPC High Density)
pins: 1 IN (power), 2 GND (power), 3 EN (in), 4 BYPASS, 5 FB (in), 6 OUT (power)

## TI_TPS611781
designator U?  Supplier Part Number 1: 296-46568-1-ND  (hidden comment: *)
ADJ 10A 2.2MHz Boost; Manufacturer: Texas Instruments; Manufacturer Part Number: TPS611781RNWT; Output Type: Adjustable; Output Configuration: Positive; Number of Outputs: 1; Min Input Voltage: 2.7V; Max Input Voltage: 20V; Min Output Voltage: 4.5V; Synchronous Rectifier: Yes; Supplier 1: Digi-Key; RoHS: No; Category: Voltage Regulators - Switching; Stock 1: 292; Pricing 1: 1=4.83000, 10=4.33600, 25=4.09960, 100=3.37070 (USD); Mount: Surface Mount; Case/Package: VQFN; Number of Pins: 13; Min Operating Temperature: -40°C; Max Operating Temperature: 85°C; Topology: Boost; Packaging: Tape and Reel; Max Output Voltage: 20V; Output Current: 10A; Switching Frequency: 2.2MHz; ComponentLink1URL: http://www.ti.com/lit/ds/symlink/tps61178.pdf?src-supplier=Digi-Key; ComponentLink1Description: http://www.ti.com/lit/ds/symlink/tps61178.pdf?src-supplier=Digi-Key
footprint TI_TPS611781 (SON, 10-Leads, Body 3.00x3.50mm, Pitch 0.50mm, IPC High Density)
pins: 1 FREQ/SNC (in), 2 AGND, 3 ILIMIT (in), 4 COMP (out), 5 FB (in), 6 PGND (power), 7 SW (power), 8 VOUT (power), 9 DISDRV (out), 10 VCC (out), 11 EN (in), 12 VIN (in), 13 BST (out)